# Altium footprint library Lab11.PcbLib: 5 footprints
Each footprint in its own frame and in the unit in brackets; x right, y up, seen from the top. Pads: shape width x height; smd on the part's side, far side on the other; paste and mask are expansions set on the pad; w line width, h text height; cw(c..) or ccw(c..) is an arc to the next point about the centre after c.
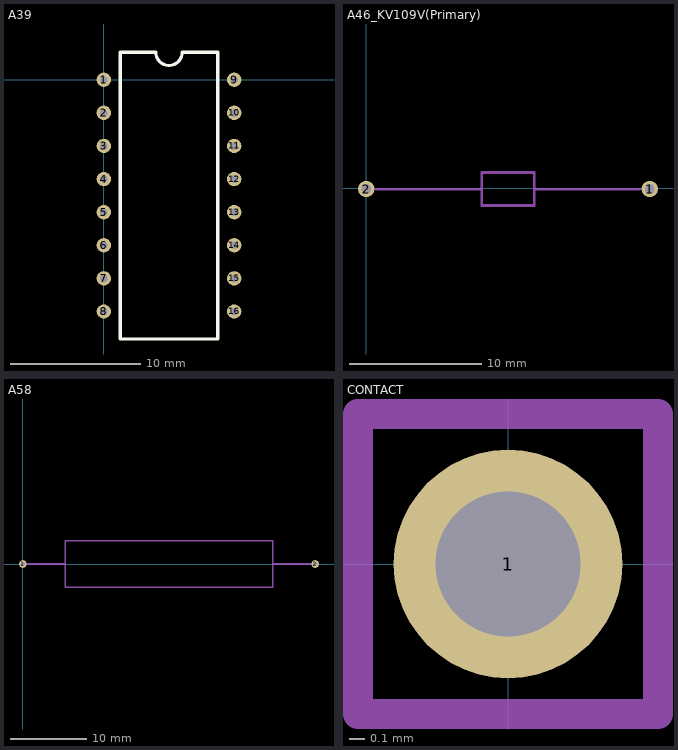
[diagram p0: the footprints below, top view; thin cyan lines are the x and y axes]

## A39 [mm]
pads (16):
  round 1.1 hole 0.6: 1(0,0) 2(0,-2.54) 3(0,-5.08) 4(0,-7.62) 5(0,-10.16) 6(0,-12.7) 7(0,-15.24) 8(0,-17.78) 9(10,0) 10(10,-2.54) 11(10,-5.08) 12(10,-7.62) 13(10,-10.16) 14(10,-12.7) 15(10,-15.24) 16(10,-17.78)
Top Overlay:
  lines w0.254: 1.25,-19.89 1.25,2.11 3.984,2.11 ccw(c5,2.11) 6.016,2.11 8.75,2.11 8.75,-19.89 1.25,-19.89

## A46_KV109V(Primary) [mm]
pads (2):
  round 1.25 hole 0.75: 1(21.5,-0.05) 2(0,-0.05)
Mechanical 1:
  lines w0.2: 0.75,-0.075 8.75,-0.075 ; 12.75,-0.075 20.75,-0.075 ; 8.75,-1.3 12.75,-1.3 12.75,1.2 8.75,1.2 8.75,-1.3

## A58 [mm]
pads (2):
  round 1 hole 0.5: 1(0,0) 2(38,0)
Mechanical 1:
  lines w0.2: 0.5,0 5.5,0 ; 32.5,0 37.5,0 ; 5.5,-3 32.5,-3 32.5,3 5.5,3 5.5,-3

## CONTACT [mil]
pads (1):
  round 60 hole 38: 1(0,0)
Mechanical 1:
  lines w7.87: -39.37,-39.37 -39.37,39.37 39.37,39.37 39.37,-39.37 -39.37,-39.37

## PCBComponent_1 [mm]